# EAGLE library part IP4220CZ6 (library ads4)
NXP 4-channel USB TVS 8kV
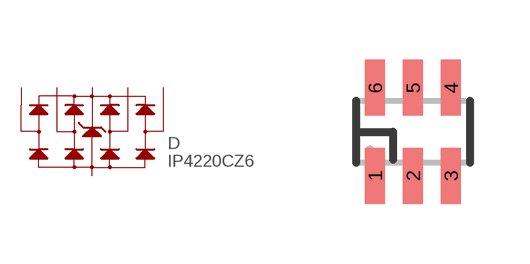
[diagram p102: symbol with the pads of SOT23-6; footprint SOT23-6]

Designator prefix D

## IP4220CZ6  [SOT23-6]
1  1  pas
2  GND  pas
3  3  pas
4  4  pas
5  VBUS  pas
6  6  pas

## Footprint SOT23-6 (pad centres in mm)
SOT23-6 package This is the DBV6 package from Texas Instruments. It differs from the one in the Eagle libraries (there are two versions in ref-packages.lbr) in that the pad dimensions are 0.5mm x 1.4mm, as in the TI recommendation. The pin spacing is 0.95mm, and the package body has nominal dimensions 2.9mm long by 1.6mm wide.
smd 0.5 x 1.4: 1 -0.95,-1.1; 2 0,-1.1; 3 0.95,-1.1; 4 0.95,1.1; 5 0,1.1; 6 -0.95,1.1